# Altium schematic symbol library TL1107BF130WQ.SchLib: 1 symbol
Pins are listed as number, name and electrical type; pins without a type are passive.

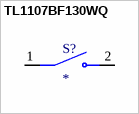
[diagram p0: symbol TL1107BF130WQ]

## TL1107BF130WQ
designator S?
MF: {'manufacturer': u'E-Switch'}; MP: TL1107BF130WQ; Package: None; Price: None; Value: *; Availability: Unavailable
footprint SW_MX_reversible
pins: 1, 2